# EAGLE library part DMC_1,5/13- (library isystems)
MINI COMBICON-Steckverbinder im Raster 3,5mm Zweireihige Grundgehäuse für Reflow-Prozesse Mit Lock & Release-Verriegelung und Gewindeflansch, Steckrichtung parallel zur Leiterplatte
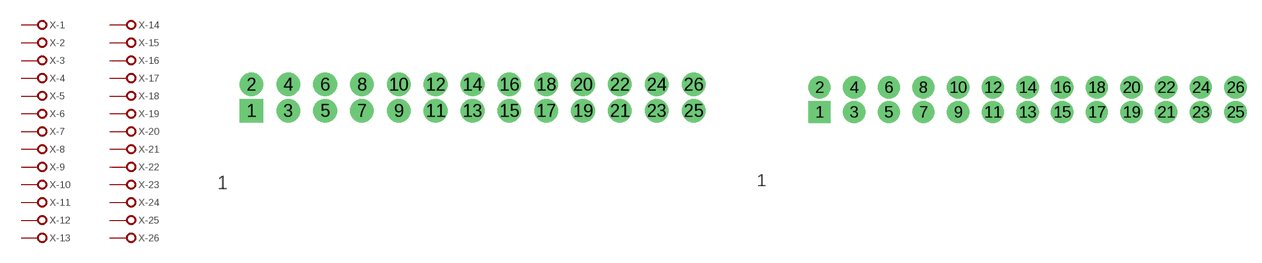
[diagram p34: symbol with the pads of DMC_1,5/13-G1-3,5_P20THR; footprints DMC_1,5/13-G1-3,5_P20THR, DMC_1,5/13-G1F-3,5-LR_P20THR]

Designator prefix X; gates -1=CONX1 -2=CONX1 -3=CONX1 -4=CONX1 -5=CONX1 -6=CONX1 -7=CONX1 -8=CONX1 -9=CONX1 -10=CONX1 -11=CONX1 -12=CONX1 -13=CONX1 -14=CONX1 -15=CONX1 -16=CONX1 -17=CONX1 -18=CONX1 -19=CONX1 -20=CONX1 -21=CONX1 -22=CONX1 -23=CONX1 -24=CONX1 -25=CONX1 -26=CONX1

## DMC_1,5/13-G1-3,5_P20THR  [DMC_1,5/13-G1-3,5_P20THR]
1  -1:P
2  -2:P
3  -3:P
4  -4:P
5  -5:P
6  -6:P
7  -7:P
8  -8:P
9  -9:P
10  -10:P
11  -11:P
12  -12:P
13  -13:P
14  -14:P
15  -15:P
16  -16:P
17  -17:P
18  -18:P
19  -19:P
20  -20:P
21  -21:P
22  -22:P
23  -23:P
24  -24:P
25  -25:P
26  -26:P

## DMC_1,5/13-G1F-3,5-LR_P20THR  [DMC_1,5/13-G1F-3,5-LR_P20THR]
Pads as for DMC_1,5/13-G1-3,5_P20THR

## Footprint DMC_1,5/13-G1-3,5_P20THR (pad centres in mm)
drill 1.5 pad 2.2 square: 1 -21,0
drill 1.5 pad 2.2: 2 -21,2.5; 3 -17.5,0; 4 -17.5,2.5; 5 -14,0; 6 -14,2.5; 7 -10.5,0; 8 -10.5,2.5; 9 -7,0; 10 -7,2.5; 11 -3.5,0; 12 -3.5,2.5; 13 0,0; 14 0,2.5; 15 3.5,0; 16 3.5,2.5; 17 7,0; 18 7,2.5; 19 10.5,0; 20 10.5,2.5; 21 14,0; 22 14,2.5; 23 17.5,0; 24 17.5,2.5; 25 21,0; 26 21,2.5

## Footprint DMC_1,5/13-G1F-3,5-LR_P20THR (pad centres in mm)
drill 1.5 pad 2.2 square: 1 -21,0
drill 1.5 pad 2.2: 2 -21,2.5; 3 -17.5,0; 4 -17.5,2.5; 5 -14,0; 6 -14,2.5; 7 -10.5,0; 8 -10.5,2.5; 9 -7,0; 10 -7,2.5; 11 -3.5,0; 12 -3.5,2.5; 13 0,0; 14 0,2.5; 15 3.5,0; 16 3.5,2.5; 17 7,0; 18 7,2.5; 19 10.5,0; 20 10.5,2.5; 21 14,0; 22 14,2.5; 23 17.5,0; 24 17.5,2.5; 25 21,0; 26 21,2.5